# Altium schematic symbol library Other.SCHLIB: 33 symbols
Pins are listed as number, name and electrical type; pins without a type are passive.

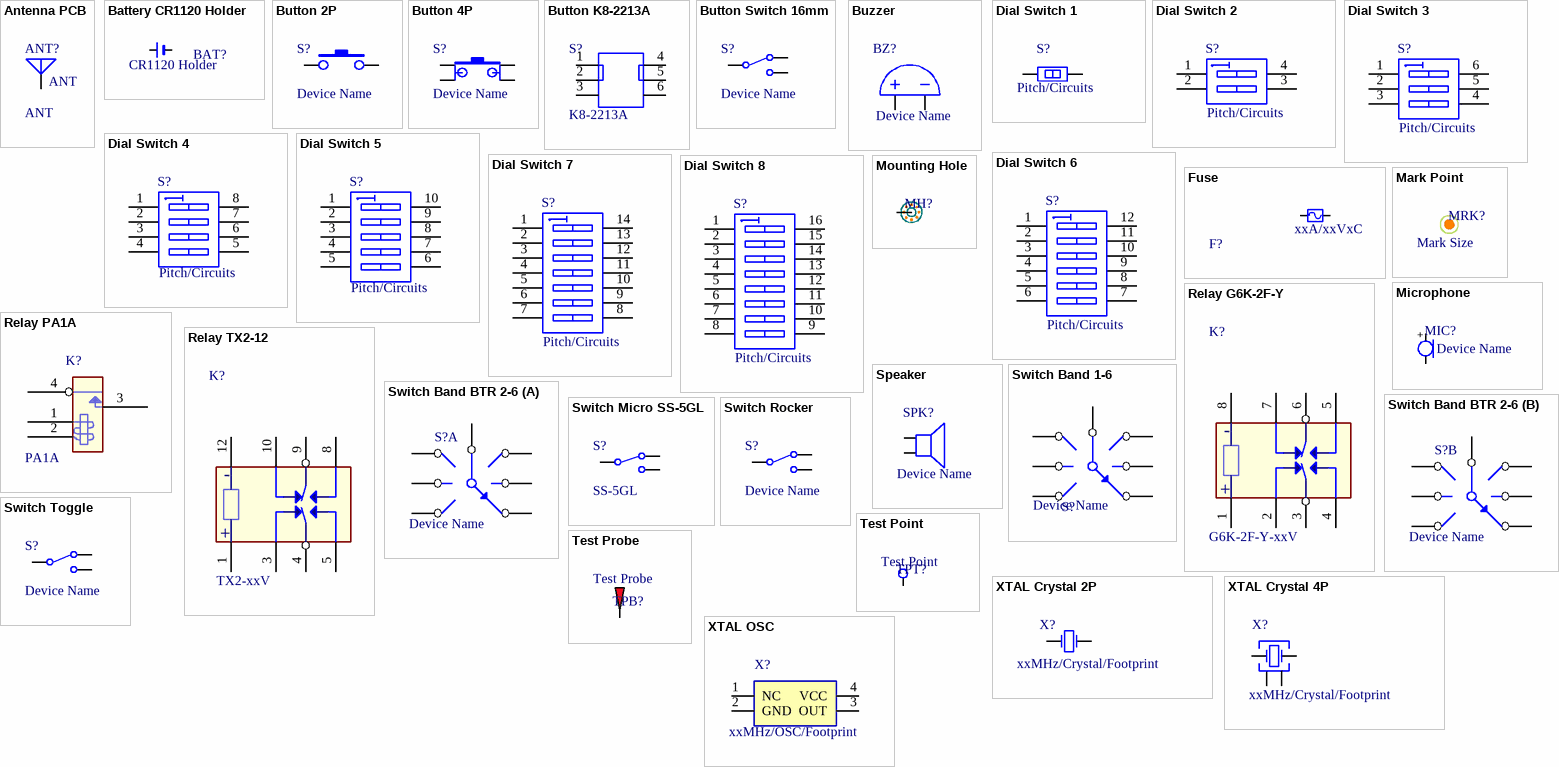
[diagram p0: symbols Antenna PCB to XTAL OSC]

## Antenna PCB
designator ANT?, comment ANT
Antenna; Manufacture: ANT; Sch Name: ANT
footprint ANT_2.4G_01 (2.4G)
footprint ANT_2.4G_02 (2.4G)
footprint ANT_2.4G_03 (2.4G)
footprint ANT_2.4G_04 (2.4G)
pins: 1 A

## Battery CR1120 Holder
designator BAT?, comment CR1120 Holder
Battery CR1120 Holder; Manufacture: CR1120 Holder; Sch Name: CR1120 Holder
footprint BAT CR1220 (CR1220纽扣电池座)
pins: 1 +, 2 -

## Button 2P
designator S?, comment Device Name
轻触按键; Manufacture: Device Name; Sch Name: Device Name
footprint Button SMD 3X6 (3X6mm单通贴片按键)
footprint Button SMD 4X2.9X2
pins: 1, 2

## Button 4P
designator S?, comment Device Name
轻触按键; Manufacture: Device Name; Sch Name: Device Name
footprint BUTTON 12X12
footprint Button TH 6X6 (6X6mm黑色四脚直插按键)
pins: 1, 2, 3, 4

## Button K8-2213A
designator S?, comment K8-2213A
自锁按键; Manufacture: K8-2213A; Sch Name: K8-2213A
footprint Button K8-2213A (六脚自锁按键)
pins: 1, 2, 3, 4, 5, 6

## Button Switch 16mm
designator S?, comment Device Name
按钮开关16mm（不带灯）; Manufacture: Device Name; Sch Name: Device Name
footprint Button 16mm (16X32mm圆柱形点动开关)
pins: 1 COMMON, 2 NO, 3 NC

## Buzzer
designator BZ?, comment Device Name
Buzzer; Manufacture: Device Name; Sch Name: Device Name
footprint BUZZER Active 9X5.5 (小号9*5.5mm有源蜂鸣器)
footprint BUZZER Active 12X9 (大号12mm有源蜂鸣器)
footprint BUZZER Magnetic MLT-5020 (无源蜂鸣器)
footprint BUZZER Active MLT-9650 (贴片无源蜂鸣器)
footprint BUZZER Magnetic MLT-8540 (贴片无源蜂鸣器)
footprint BUZZER Magnetic MLT-7525 (无源蜂鸣器)
pins: 1, 2

## Dial Switch 1
designator S?, comment Sch Name: Pitch/Circuits  (hidden comment: Device Name)
1位拨码开关; Manufacture: Device Name
footprint Switch SMT 2.54-1 (2位拨码开关)
pins: 1 A1, 2 A2

## Dial Switch 2
designator S?, comment Sch Name: Pitch/Circuits  (hidden comment: Device Name)
2位拨码开关; Manufacture: Device Name
footprint Switch SMT 1.27-2 (2位拨码开关)
footprint Switch SMT 2.54-2 (2位拨码开关)
footprint Switch DIP 2.54-2 (2位拨码开关)
footprint Switch DIP 2.54-2 RA (2位拨码开关)
pins: 1 A1, 2 A2, 3 B2, 4 B1

## Dial Switch 3
designator S?, comment Sch Name: Pitch/Circuits  (hidden comment: Device Name)
3位拨码开关; Manufacture: Device Name
footprint Switch SMT 1.27-3 (3位拨码开关)
footprint Switch SMT 2.54-3 (2位拨码开关)
footprint Switch DIP 2.54-3 (2位拨码开关)
footprint Switch DIP 2.54-3 RA (3位拨码开关)
pins: 1 A1, 2 A2, 3 A3, 4 B3, 5 B2, 6 B1

## Dial Switch 4
designator S?, comment Sch Name: Pitch/Circuits  (hidden comment: Device Name)
4位拨码开关; Manufacture: Device Name
footprint Switch SMT 1.27-4 (4位拨码开关)
footprint Switch SMT 2.54-4 (2位拨码开关)
footprint Switch DIP 2.54-4 (2位拨码开关)
footprint Switch DIP 2.54-4 RA (4位拨码开关)
pins: 1 A1, 2 A2, 3 A3, 4 A4, 5 B4, 6 B3, 7 B2, 8 B1

## Dial Switch 5
designator S?, comment Sch Name: Pitch/Circuits  (hidden comment: Device Name)
5位拨码开关; Manufacture: Device Name
footprint Switch DIP 2.54-5 RA (5位拨码开关)
footprint Switch DIP 2.54-5 (2位拨码开关)
footprint Switch SMT 1.27-5 (5位拨码开关)
footprint Switch SMT 2.54-5 (2位拨码开关)
pins: 1 A1, 2 A2, 3 A3, 4 A4, 5 A5, 6 B5, 7 B4, 8 B3, 9 B2, 10 B1

## Dial Switch 6
designator S?, comment Sch Name: Pitch/Circuits  (hidden comment: Device Name)
6位拨码开关; Manufacture: Device Name
footprint Switch SMT 2.54-6 (2位拨码开关)
footprint Switch SMT 1.27-6 (6位拨码开关)
footprint Switch DIP 2.54-6 (2位拨码开关)
footprint Switch DIP 2.54-6 RA (6位拨码开关)
pins: 1 A1, 2 A2, 3 A3, 4 A4, 5 A5, 6 A6, 7 B6, 8 B5, 9 B4, 10 B3, 11 B2, 12 B1

## Dial Switch 7
designator S?, comment Sch Name: Pitch/Circuits  (hidden comment: Device Name)
7位拨码开关; Manufacture: Device Name
footprint Switch DIP 2.54-7 RA (7位拨码开关)
footprint Switch DIP 2.54-7 (2位拨码开关)
footprint Switch SMT 1.27-7 (7位拨码开关)
footprint Switch SMT 2.54-7 (2位拨码开关)
pins: 1 A1, 2 A2, 3 A3, 4 A4, 5 A5, 6 A6, 7 A7, 8 B7, 9 B6, 10 B5, 11 B4, 12 B3, 13 B2, 14 B1

## Dial Switch 8
designator S?, comment Sch Name: Pitch/Circuits  (hidden comment: Device Name)
8位拨码开关; Manufacture: Device Name
footprint Switch SMT 2.54-8 (2位拨码开关)
footprint Switch SMT 1.27-8 (8位拨码开关)
footprint Switch DIP 2.54-8 (2位拨码开关)
footprint Switch DIP 2.54-8 RA (8位拨码开关)
pins: 1 A1, 2 A2, 3 A3, 4 A4, 5 A5, 6 A6, 7 A7, 8 A8, 9 B8, 10 B7, 11 B6, 12 B5, 13 B4, 14 B3, 15 B2, 16 B1

## Fuse
designator F?, comment Sch Name: xxA/xxVxC  (hidden comment: Device Name)
Fuse; Manufacture: Device Name
footprint FUSE 0805 (贴片保险电阻0805封装)
footprint FUSE 1206 (贴片保险电阻1206封装)
footprint FUSE 1812 (贴片保险电阻1812封装)
footprint FUSE 0451 (贴片保险电阻1808封装)
footprint FUSE 1210 (贴片保险电阻1206封装)
footprint FUSE Holder 0451 (贴片保险电阻1808封装)
footprint FUSE Holder 23.4X26.3X10 (保险丝)
pins: 1, 2

## Mark Point
designator MRK?, comment Mark Size
Mark Point; Manufacture: Mark Size; Sch Name: Mark Size
footprint Mark 1.0-2.0
footprint Mark 1.0-3.0

## Microphone
designator MIC?, comment Device Name
Microphone; Manufacture: Device Name; Sch Name: Device Name
footprint MICPHONE 1.9-6X3.5 POM-3535P-3-R (小号麦克风)
pins: 1, 2
text: +

## Mounting Hole
designator MH?, comment Mounting Hole Size  (value not drawn)
安装孔; Sch Name: Mounting Hole; Manufacture: Mounting Hole Size
footprint Mounting Hole 3.2-7 B (3mm固定孔)
footprint Mounting Hole 3.2-7 A (3mm固定孔)
footprint Mounting Hole 3.2-6 B (3mm固定孔)
footprint Mounting Hole 3.2-6 A (3mm固定孔)
footprint Mounting Hole 2.6-6 A (2.5mm固定孔)
footprint Mounting Hole 2.6-5 A (2.5mm固定孔)
footprint Mounting Hole 2.1-4 A (2.5mm固定孔)
footprint SMTSO-M2/M2.5/M3 (2mm 2.5mm 3.0mmSMT螺母)
pins: 1

## Relay G6K-2F-Y
designator K?, comment G6K-2F-Y-xxV
Relay; Manufacture: G6K-2F-Y-xxV; Sch Name: G6K-2F-Y-xxV
footprint Relay G6K-2F-Y
pins: 1, 2, 3, 4, 5, 6, 7, 8
text: -; +

## Relay PA1A
designator K?, comment PA1A
Relay; Manufacture: PA1A; Sch Name: PA1A
footprint RELAY PA1A (松下5APALA继电器)
pins: 1 COIL1, 2 COIL2, 3 NO, 4 COMMON

## Relay TX2-12
designator K?, comment TX2-xxV
Relay; Manufacture: TX2-xxV; Sch Name: TX2-xxV
footprint Relay TX2-L2
pins: 1, 3, 4, 5, 8, 9, 10, 12
text: -; +

## Speaker
designator SPK?, comment Device Name
Speaker; Manufacture: Device Name; Sch Name: Device Name
pins: 1, 2

## Switch Band 1-6
designator S?, comment Device Name
波段开关 1刀6档; Manufacture: Device Name; Sch Name: Device Name
pins: 1, 2, 3, 4, 5, 6, 7

## Switch Band BTR 2-6
designator S?, comment Device Name
波段开关 2刀6档; Manufacture: Device Name; Sch Name: Device Name
footprint Switch Band BTR SR26B
part A pins: 1, 2, 3, 4, 5, 6, A
part B pins: 7, 8, 9, 10, 11, 12, B

## Switch Micro SS-5GL
designator S?, comment SS-5GL
微动开关; Manufacture: SS-5GL; Sch Name: SS-5GL
footprint Switch Micro SS-5GL (微动限位开关)
pins: 1 COMMON, 2 NO, 3 NC

## Switch Rocker
designator S?, comment Device Name
船型开关; Manufacture: Device Name; Sch Name: Device Name
footprint SWITCH  Rocker 3-21.4x15 (单通船型开关)
pins: 1 COMMON, 2 NO, 3 NC

## Switch Toggle
designator S?, comment Device Name
乒乓开关; Manufacture: Device Name; Sch Name: Device Name
footprint SWITCH Toggle 7101MD9ABE CK (单通蓝色乒乓开关)
footprint SWITCH Toggle 7101SYZBE CK (单通蓝色乒乓开关)
pins: 1 NO, 2 COMMON, 3 NC

## Test Point
designator TPT?, comment Footprint  (value not drawn)
Test Point; Manufacture: Footprint; Sch Name: Test Point
footprint Test Point TH 1.0-3
footprint Test Point SMD 1.0
footprint Test Point SMD 0.8
footprint Test Point SMD 0.6
footprint Test Point SMD 2.0
footprint Test Point SMD 2.5
footprint Test Point SMD 3.0
pins: 1 (power)

## Test Probe
designator TPB?, comment Footprint  (value not drawn)
Test Probe; Manufacture: Footprint; Sch Name: Test Probe
footprint Test Probe INGUN_GKS-075_209_064_X_xx00_0
footprint Test Probe INGUN_GKS-075_207_064_X_xx00_0
footprint Test Probe INGUN_GKS-004_308_396_X_xx00_0
footprint Test Probe INGUN_GKS-004_206_396_X_xx00_0
footprint Test Probe INGUN_GKS-003_308_254_X_xx00_0
footprint Test Probe INGUN_GKS-003_307_254_X_xx00_0
footprint Test Probe INGUN_GKS-003_206_254_X_xx00_0
footprint Test Probe HUARONG_PH-6E
footprint Test Probe INGUN_GKS-075_217_120_X_xx00_0
footprint Test Probe INGUN_GKS-075_207_100_X_xx00_0
pins: 1 (power)

## XTAL Crystal 2P
designator X?, comment Sch Name: xxMHz/Crystal/Footprint  (hidden comment: Device Name)
Crystal XTAL; Manufacture: Device Name
footprint XTAL Crystal 3215
footprint XTAL Crystal 5032
pins: 1 OSC1, 2 OSC2

## XTAL Crystal 4P
designator X?, comment Sch Name: xxMHz/Crystal/Footprint  (hidden comment: Device Name)
Crystal XTAL; Manufacture: Device Name
footprint XTAL Crystal 3225
pins: 1 OSC1, 2 OSC3 (power), 3 OSC2, 4 OSC4 (power)

## XTAL OSC
designator X?, comment Sch Name: xxMHz/OSC/Footprint  (hidden comment: Device Name)
OSC XTAL; Manufacture: Device Name
footprint XTAL OSC 3225
footprint XTAL OSC 5032
footprint XTAL OSC 5032 EPSON SG
footprint XTAL OSC 7050 EPSON SG
pins: 1 NC, 2 GND, 3 OUT, 4 VCC